# EAGLE library part 5103310-3 (library Tyco_By_element14_Batch_1)
WIRE-BOARD CONN, HEADER, 34POS
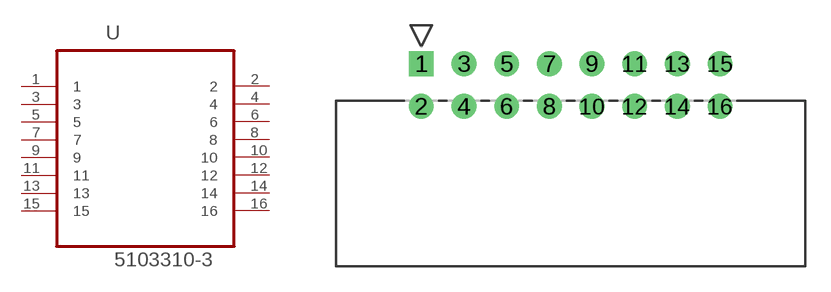
[diagram p107: symbol with the pads of TYCO_5103310-3; footprint TYCO_5103310-3]

Designator prefix U

## 5103310-3 (MPN: 5103310-3; OC_FARNELL: 1374912; OC_NEWARK: 39M4090; PACKAGE: 16AY HEADER; SUPPLIER: TycoElectronics)  [TYCO_5103310-3]
1  1  pas
2  2  pas
3  3  pas
4  4  pas
5  5  pas
6  6  pas
7  7  pas
8  8  pas
9  9  pas
10  10  pas
11  11  pas
12  12  pas
13  13  pas
14  14  pas
15  15  pas
16  16  pas

## Footprint TYCO_5103310-3 (pad centres in mm)
drill 0.965 square: 1 -17.78,5.08
drill 0.965: 2 -17.78,2.54; 3 -15.24,5.08; 4 -15.24,2.54; 5 -12.7,5.08; 6 -12.7,2.54; 7 -10.16,5.08; 8 -10.16,2.54; 9 -7.62,5.08; 10 -7.62,2.54; 11 -5.08,5.08; 12 -5.08,2.54; 13 -2.54,5.08; 14 -2.54,2.54; 15 0,5.08; 16 0,2.54